# EAGLE library part MAX1924 (library JCM)
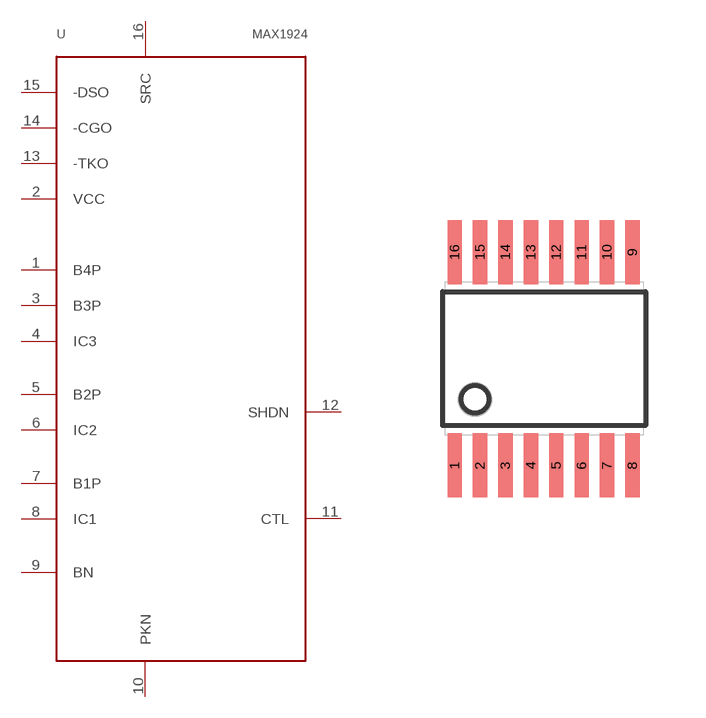
[diagram p5: symbol with the pads of QSOP-16; footprint QSOP-16]

Designator prefix -

## MAX1924  [QSOP-16]
1  B4P
2  VCC
3  B3P
4  IC3
5  B2P
6  IC2
7  B1P
8  IC1
9  BN
10  PKN
11  CTL
12  SHDN
13  -TKO
14  -CGO
15  -DSO
16  SRC

## Footprint QSOP-16 (pad centres in mm)
smd 0.356 x 1.6: 1 -2.235,-2.667; 2 -1.6,-2.667; 3 -0.965,-2.667; 4 -0.33,-2.667; 5 0.305,-2.667; 6 0.94,-2.667; 7 1.575,-2.667; 8 2.21,-2.667; 9 2.21,2.667; 10 1.575,2.667; 11 0.94,2.667; 12 0.305,2.667; 13 -0.33,2.667; 14 -0.965,2.667; 15 -1.6,2.667; 16 -2.235,2.667